# Altium footprint library wson_6_p65_200x200x80.PcbLib: 1 footprints
Each footprint in its own frame and in the unit in brackets; x right, y up, seen from the top. Pads: shape width x height; smd on the part's side, far side on the other; paste and mask are expansions set on the pad; w line width, h text height; cw(c..) or ccw(c..) is an arc to the next point about the centre after c.
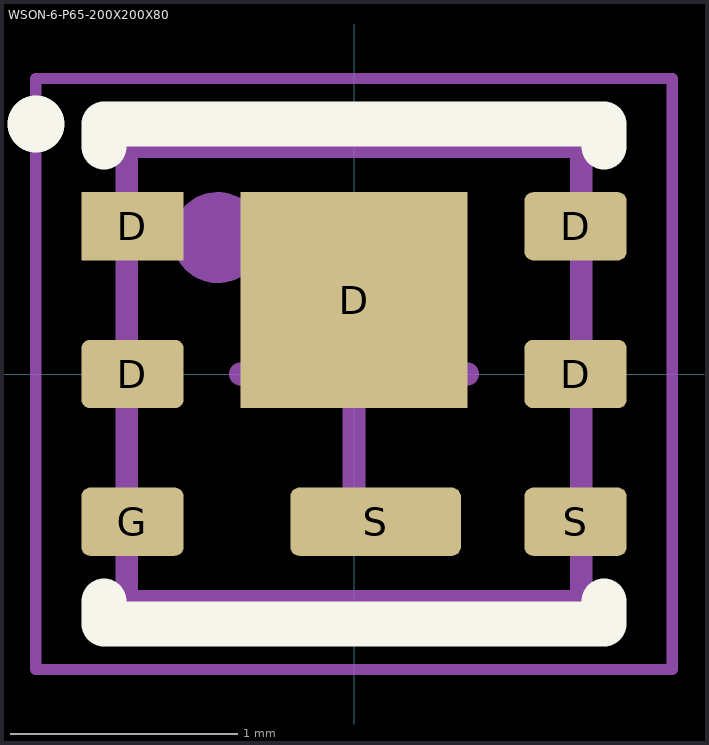
[diagram p0: the footprint, top view; thin cyan lines are the x and y axes]

## WSON-6-P65-200X200X80 [mm] "WSON, 6-Leads, Body 2,00x2,00mm, Pitch 0,65mm, Thermal Pad 1,00x0,95mm, IPC Medium Density"
height 0.8
pads (8):
  rrect25% 0.45x0.3 smd paste-0.002: D(-0.975,0) D(0.975,0) D(0.975,0.65) G(-0.975,-0.65) S(0.975,-0.65)
  rect 0.45x0.3 smd paste-0.002: D(-0.975,0.65)
  rect 1x0.95 smd paste-10: D(0,0.325)
  rrect25% 0.75x0.3 smd paste-0.002: S(0.095,-0.65)
Top Overlay:
  circle w0.25: c-1.4,1.1 r0
  lines w0.2: -1.1,-1 -1.1,-1.1 1.1,-1.1 1.1,-1 ; -1.1,1 -1.1,1.1 1.1,1.1 1.1,1
Top Paste:
  region: 0.45,-0.1 0.45,0.75 -0.45,0.75 -0.45,-0.1
  lines w0.05: -0.45,-0.1 -0.45,0.75 0.45,0.75 0.45,-0.1 -0.45,-0.1
Top Comment:
  text ".Comment" at 1,1.4 h1.2
Top Designator:
  text ".Designator" at -0.3,1.4 h1.2
Top Component Outline:
  circle w0.2: c-0.6,0.6 r0.1
  lines w0.1: -1,-1 1,-1 1,1 -1,1 -1,-1
Top Courtyard (Mech15):
  lines w0.05: -1.4,-1.3 1.4,-1.3 1.4,1.3 -1.4,1.3 -1.4,-1.3
  lines w0.1: -0.5,0 0.5,0 ; 0,-0.5 0,0.5
3D body "WSON-6-2X2.STEP": height 0.8, standoff 0, extent -1,-1 1,1